# EAGLE library part SSW-105-01-G-D (library robot actuator)
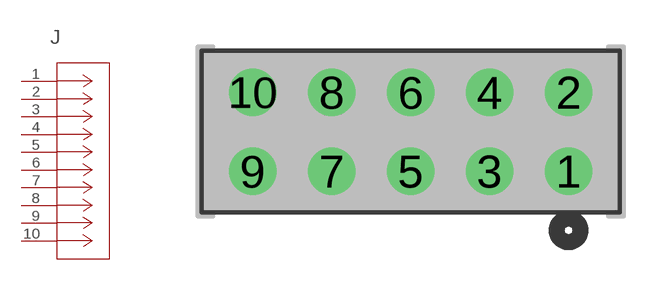
[diagram p1: symbol with the pads of CON10_2X5_TU_SSQ; footprint CON10_2X5_TU_SSQ]

Designator prefix J

## SSW-105-01-G-D (MANUFACTURER_PART_NUMBER: SSW10501GD; VENDOR: Samtec Inc)  [CON10_2X5_TU_SSQ]
1  1  pas
2  2  pas
3  3  pas
4  4  pas
5  5  pas
6  6  pas
7  7  pas
8  8  pas
9  9  pas
10  10  pas

## Footprint CON10_2X5_TU_SSQ (pad centres in mm)
drill 1.016: 1 5.08,-1.27; 2 5.08,1.27; 3 2.54,-1.27; 4 2.54,1.27; 5 0,-1.27; 6 0,1.27; 7 -2.54,-1.27; 8 -2.54,1.27; 9 -5.08,-1.27; 10 -5.08,1.27